# Altium schematic symbol library ADP3330.Schlib: 1 symbol
Pins are listed as number, name and electrical type; pins without a type are passive.

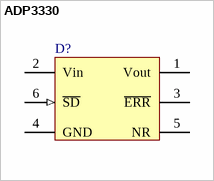
[diagram p0: symbol ADP3330]

## ADP3330
designator D?
Positive LDO regulator; Package Information: Latest Revision: ver11.0, Feb-2003; Configures: APEX II, APEX 20K, Mercury, ACEX 1K & FLEX Devices; Code - JEDEC: MS-026-ABA; Published: 17-Sep-2003; Datasheet: Latest Revision: ver1.1, Oct-2003; Package Reference: TQFP32; Publisher: Altium Limited
footprint SOT23-6
pins: 1 Vout (power), 2 Vin (power), 3 ~{ERR} (oc), 4 GND (power), 5 NR, 6 ~{SD} (in)